# Altium footprint library SMD Connectors.PcbLib: 24 footprints (part 2 of 2)
Each footprint in its own frame and in the unit in brackets; x right, y up, seen from the top. Pads: shape width x height; smd on the part's side, far side on the other; paste and mask are expansions set on the pad; w line width, h text height; cw(c..) or ccw(c..) is an arc to the next point about the centre after c.
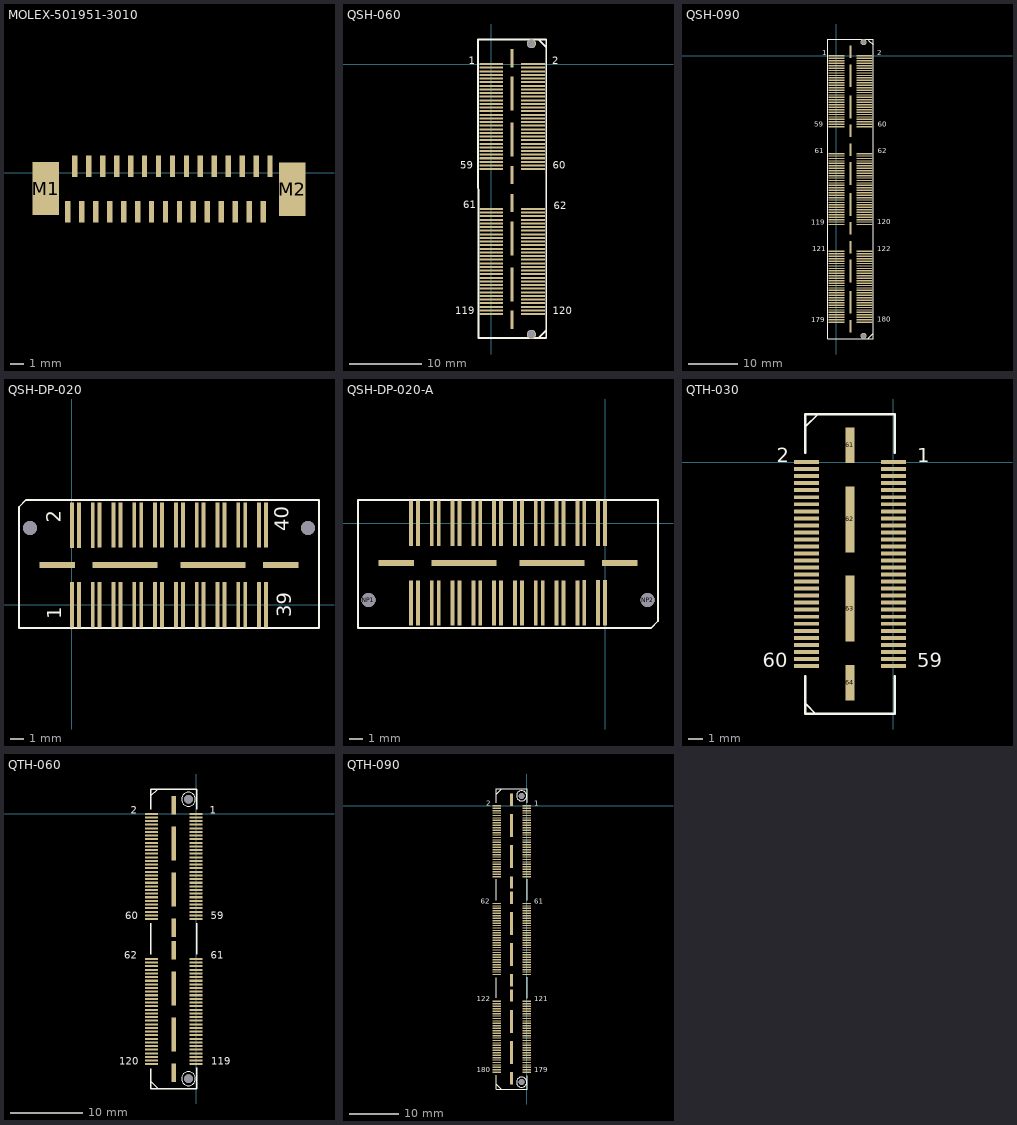
[diagram p1: the footprints below, top view; thin cyan lines are the x and y axes]

## MOLEX-501951-3010 [mil] "MOLEX FPC CONNECTOR 30 POSITIONS"
pads (32):
  rect 15x60 smd: 1(374.02,-109.8) 2(393.7,19.37) 3(413.39,-109.8) 4(433.07,19.37) 5(452.76,-109.8) 6(472.44,19.37) 7(492.13,-109.8) 8(511.81,19.37) 9(531.5,-109.8) 10(551.18,19.37) 11(570.87,-109.8) 12(590.55,19.37) 13(610.24,-109.8) 14(629.92,19.37) 15(649.61,-109.8) 16(669.29,19.37) 17(688.98,-109.8) 18(708.66,19.37) 19(728.35,-109.8) 20(748.03,19.37) 21(767.72,-109.8) 22(787.4,19.37) 23(807.09,-109.8) 24(826.77,19.37) 25(846.46,-109.8) 26(866.14,19.37) 27(885.83,-109.8) 28(905.51,19.37) 29(925.2,-109.8) 30(944.88,19.37)
  rect 75x150 smd: M1(311,-44) M2(1008,-46)
3D body: height 157.4, standoff -2.05, extent 309,-117.58 1009.79,59.58

## QSH-060 [mm]
pads (130):
  rect 3.273x0.279 smd: 1(0,0) 2(5.768,0) 3(0,-0.5) 4(5.768,-0.5) 5(0,-1) 6(5.768,-1) 7(0,-1.5) 8(5.768,-1.5) 9(0,-2) 10(5.768,-2) 11(0,-2.5) 12(5.768,-2.5) 13(0,-3) 14(5.768,-3) 15(0,-3.5) 16(5.768,-3.5) 17(0,-4) 18(5.768,-4) 19(0,-4.5) 20(5.768,-4.5) 21(0,-5) 22(5.768,-5) 23(0,-5.5) 24(5.768,-5.5) 25(0,-6) 26(5.768,-6) 27(0,-6.5) 28(5.768,-6.5) 29(0,-7) 30(5.768,-7) 31(0,-7.5) 32(5.768,-7.5) 33(0,-8) 34(5.768,-8) 35(0,-8.5) 36(5.768,-8.5) 37(0,-9) 38(5.768,-9) 39(0,-9.5) 40(5.768,-9.5) 41(0,-10) 42(5.768,-10) 43(0,-10.5) 44(5.768,-10.5) 45(0,-11) 46(5.768,-11) 47(0,-11.5) 48(5.768,-11.5) 49(0,-12) 50(5.768,-12) 51(0,-12.5) 52(5.768,-12.5) 53(0,-13) 54(5.768,-13) 55(0,-13.5) 56(5.768,-13.5) 57(0,-14) 58(5.768,-14) 59(0,-14.5) 60(5.768,-14.5) 61(0,-20.003) 62(5.768,-20.003) 63(0,-20.503) 64(5.768,-20.503) 65(0,-21.003) 66(5.768,-21.003) 67(0,-21.503) 68(5.768,-21.503) 69(0,-22.003) 70(5.768,-22.003) 71(0,-22.503) 72(5.768,-22.503) 73(0,-23.003) 74(5.768,-23.003) 75(0,-23.503) 76(5.768,-23.503) 77(0,-24.003) 78(5.768,-24.003) 79(0,-24.503) 80(5.768,-24.503) 81(0,-25.003) 82(5.768,-25.003) 83(0,-25.503) 84(5.768,-25.503) 85(0,-26.003) 86(5.768,-26.003) 87(0,-26.503) 88(5.768,-26.503) 89(0,-27.003) 90(5.768,-27.003) 91(0,-27.503) 92(5.768,-27.503) 93(0,-28.003) 94(5.768,-28.003) 95(0,-28.503) 96(5.768,-28.503) 97(0,-29.003) 98(5.768,-29.003) 99(0,-29.503) 100(5.768,-29.503) 101(0,-30.003) 102(5.768,-30.003) 103(0,-30.503) 104(5.768,-30.503) 105(0,-31.003) 106(5.768,-31.003) 107(0,-31.503) 108(5.768,-31.503) 109(0,-32.003) 110(5.768,-32.003) 111(0,-32.503) 112(5.768,-32.503) 113(0,-33.003) 114(5.768,-33.003) 115(0,-33.503) 116(5.768,-33.503) 117(0,-34.003) 118(5.768,-34.003) 119(0,-34.503) 120(5.768,-34.503)
  rect 0.432x2.54 smd: 121(2.874,-35.309) 124(2.874,-19.18) 125(2.874,-15.307) 128(2.874,0.822)
  rect 0.432x4.699 smd: 122(2.874,-30.42) 123(2.874,-24.069) 126(2.874,-10.418) 127(2.874,-4.067)
  round 1.27 hole 1.016: 301(5.541,-37.312) 301(5.541,2.824)
Top Overlay:
  lines w0.254: 6.55,-37.766 7.5,-36.816 ; 6.55,3.334 7.5,2.384 ; -1.82,3.403 7.58,3.403 7.579,-37.81 -1.786,-37.819 -1.82,3.403
  text "62" at 8.6,-20.016 h1.02
  text "60" at 8.5,-14.416 h1.02
  text "59" at -4.3,-14.416 h1.02
  text "2" at 8.4,-0.016 h1.02
  text "1" at -3.1,-0.016 h1.02
  text "120" at 8.5,-34.516 h1.02
  text "119" at -5,-34.516 h1.02
  text "61" at -3.9,-19.916 h1.02

## QSH-090 [mm]
pads (194):
  rect 3.273x0.279 smd: 1(0,0) 2(5.768,0) 3(0,-0.5) 4(5.768,-0.5) 5(0,-1) 6(5.768,-1) 7(0,-1.5) 8(5.768,-1.5) 9(0,-2) 10(5.768,-2) 11(0,-2.5) 12(5.768,-2.5) 13(0,-3) 14(5.768,-3) 15(0,-3.5) 16(5.768,-3.5) 17(0,-4) 18(5.768,-4) 19(0,-4.5) 20(5.768,-4.5) 21(0,-5) 22(5.768,-5) 23(0,-5.5) 24(5.768,-5.5) 25(0,-6) 26(5.768,-6) 27(0,-6.5) 28(5.768,-6.5) 29(0,-7) 30(5.768,-7) 31(0,-7.5) 32(5.768,-7.5) 33(0,-8) 34(5.768,-8) 35(0,-8.5) 36(5.768,-8.5) 37(0,-9) 38(5.768,-9) 39(0,-9.5) 40(5.768,-9.5) 41(0,-10) 42(5.768,-10) 43(0,-10.5) 44(5.768,-10.5) 45(0,-11) 46(5.768,-11) 47(0,-11.5) 48(5.768,-11.5) 49(0,-12) 50(5.768,-12) 51(0,-12.5) 52(5.768,-12.5) 53(0,-13) 54(5.768,-13) 55(0,-13.5) 56(5.768,-13.5) 57(0,-14) 58(5.768,-14) 59(0,-14.5) 60(5.768,-14.5) 61(0,-20.003) 62(5.768,-20.003) 63(0,-20.503) 64(5.768,-20.503) 65(0,-21.003) 66(5.768,-21.003) 67(0,-21.503) 68(5.768,-21.503) 69(0,-22.003) 70(5.768,-22.003) 71(0,-22.503) 72(5.768,-22.503) 73(0,-23.003) 74(5.768,-23.003) 75(0,-23.503) 76(5.768,-23.503) 77(0,-24.003) 78(5.768,-24.003) 79(0,-24.503) 80(5.768,-24.503) 81(0,-25.003) 82(5.768,-25.003) 83(0,-25.503) 84(5.768,-25.503) 85(0,-26.003) 86(5.768,-26.003) 87(0,-26.503) 88(5.768,-26.503) 89(0,-27.003) 90(5.768,-27.003) 91(0,-27.503) 92(5.768,-27.503) 93(0,-28.003) 94(5.768,-28.003) 95(0,-28.503) 96(5.768,-28.503) 97(0,-29.003) 98(5.768,-29.003) 99(0,-29.503) 100(5.768,-29.503) 101(0,-30.003) 102(5.768,-30.003) 103(0,-30.503) 104(5.768,-30.503) 105(0,-31.003) 106(5.768,-31.003) 107(0,-31.503) 108(5.768,-31.503) 109(0,-32.003) 110(5.768,-32.003) 111(0,-32.503) 112(5.768,-32.503) 113(0,-33.003) 114(5.768,-33.003) 115(0,-33.503) 116(5.768,-33.503) 117(0,-34.003) 118(5.768,-34.003) 119(0,-34.503) 120(5.768,-34.503) 121(0,-40.006) 122(5.768,-40.006) 123(0,-40.506) 124(5.768,-40.506) 125(0,-41.006) 126(5.768,-41.006) 127(0,-41.506) 128(5.768,-41.506) 129(0,-42.006) 130(5.768,-42.006) 131(0,-42.506) 132(5.768,-42.506) 133(0,-43.006) 134(5.768,-43.006) 135(0,-43.506) 136(5.768,-43.506) 137(0,-44.006) 138(5.768,-44.006) 139(0,-44.506) 140(5.768,-44.506) 141(0,-45.006) 142(5.768,-45.006) 143(0,-45.506) 144(5.768,-45.506) 145(0,-46.006) 146(5.768,-46.006) 147(0,-46.506) 148(5.768,-46.506) 149(0,-47.006) 150(5.768,-47.006) 151(0,-47.506) 152(5.768,-47.506) 153(0,-48.006) 154(5.768,-48.006) 155(0,-48.506) 156(5.768,-48.506) 157(0,-49.006) 158(5.768,-49.006) 159(0,-49.506) 160(5.768,-49.506) 161(0,-50.006) 162(5.768,-50.006) 163(0,-50.506) 164(5.768,-50.506) 165(0,-51.006) 166(5.768,-51.006) 167(0,-51.506) 168(5.768,-51.506) 169(0,-52.006) 170(5.768,-52.006) 171(0,-52.506) 172(5.768,-52.506) 173(0,-53.006) 174(5.768,-53.006) 175(0,-53.506) 176(5.768,-53.506) 177(0,-54.006) 178(5.768,-54.006) 179(0,-54.506) 180(5.768,-54.506)
  rect 0.432x2.54 smd: 181(2.874,-55.312) 184(2.874,-39.183) 185(2.874,-35.309) 188(2.874,-19.18) 189(2.874,-15.307) 192(2.874,0.822)
  rect 0.432x4.699 smd: 182(2.874,-50.423) 183(2.874,-44.072) 186(2.874,-30.42) 187(2.874,-24.069) 190(2.874,-10.418) 191(2.874,-4.067)
  round 1.27 hole 1.016: 301(5.541,-57.314) 301(5.541,2.825)
Top Overlay:
  lines w0.254: 6.55,-57.75 7.5,-56.8 ; 6.55,3.25 7.5,2.3 ; -1.82,-57.872 7.555,-57.872 7.58,3.403 -1.82,3.403 -1.82,-57.872
  text "179" at -5.2,-54.5 h1.02
  text "119" at -5.2,-34.6 h1.02
  text "121" at -5,-40 h1.02
  text "61" at -4.4,-19.9 h1.02
  text "59" at -4.5,-14.5 h1.02
  text "180" at 8.3,-54.4 h1.02
  text "122" at 8.3,-40 h1.02
  text "120" at 8.3,-34.5 h1.02
  text "62" at 8.5,-19.9 h1.02
  text "60" at 8.5,-14.5 h1.02
  text "2" at 8.4,0.1 h1.02
  text "1" at -2.9,0.1 h1.02

## QSH-DP-020 [mm]
pads (46):
  rect 0.279x3.273 smd: 1(0,0) 2(0,5.754) 3(0.5,0) 4(0.5,5.754) 5(1.5,0) 6(1.5,5.754) 7(2,0) 8(2,5.768) 9(3,0) 10(3,5.768) 11(3.5,0) 12(3.5,5.768) 13(4.5,0) 14(4.5,5.768) 15(5,0) 16(5,5.768) 17(6,0) 18(6,5.768) 19(6.5,0) 20(6.5,5.768) 21(7.5,0) 22(7.5,5.768) 23(8,0) 24(8,5.768) 25(9,0) 26(9,5.768) 27(9.5,0) 28(9.5,5.768) 29(10.5,0) 30(10.5,5.768) 31(11,0) 32(11,5.768) 33(12,0) 34(12,5.768) 35(12.5,0) 36(12.5,5.768) 37(13.5,0) 38(13.5,5.768) 39(14,0) 40(14,5.768)
  rect 2.54x0.432 smd: 41(-1.065,2.884) 44(15.065,2.884)
  rect 4.7x0.432 smd: 42(3.825,2.884) 43(10.175,2.884)
  round 1.016 hole 1.016: ""(-3.03,5.554) ""(17.03,5.554)
Top Overlay:
  lines w0.127: -3.818,-1.671 -3.818,4.933 -3.818,7.065 -3.31,7.573 17.822,7.573 17.822,-1.671 -3.818,-1.671
  text "1" at -0.755,-1.021 h1.02
  text "2" at -0.805,5.915 h1.02
  text "40" at 15.635,5.307 h1.02
  text "39" at 15.827,-0.897 h1.02
Bottom Overlay:

## QSH-DP-020-A [mm]
pads (46):
  rect 0.279x3.273 smd: 1(0,0) 2(0,-5.754) 3(-0.5,0) 4(-0.5,-5.754) 5(-1.5,0) 6(-1.5,-5.754) 7(-2,0) 8(-2,-5.768) 9(-3,0) 10(-3,-5.768) 11(-3.5,0) 12(-3.5,-5.768) 13(-4.5,0) 14(-4.5,-5.768) 15(-5,0) 16(-5,-5.768) 17(-6,0) 18(-6,-5.768) 19(-6.5,0) 20(-6.5,-5.768) 21(-7.5,0) 22(-7.5,-5.768) 23(-8,0) 24(-8,-5.768) 25(-9,0) 26(-9,-5.768) 27(-9.5,0) 28(-9.5,-5.768) 29(-10.5,0) 30(-10.5,-5.768) 31(-11,0) 32(-11,-5.768) 33(-12,0) 34(-12,-5.768) 35(-12.5,0) 36(-12.5,-5.768) 37(-13.5,0) 38(-13.5,-5.768) 39(-14,0) 40(-14,-5.768)
  rect 2.54x0.432 smd: 41(1.065,-2.884) 44(-15.065,-2.884)
  rect 4.7x0.432 smd: 42(-3.825,-2.884) 43(-10.175,-2.884)
  round 1.016 hole 1.016: NP1(-17.067,-5.554) NP2(3.066,-5.554)
Top Overlay:
  lines w0.127: -17.822,-7.573 -17.822,1.671 3.818,1.671 3.818,-4.933 3.818,-7.065 3.31,-7.573 -17.822,-7.573

## QTH-030 [mil]
pads (64):
  rect 70x11 smd: 1(0,0) 2(-243,0) 3(0,-19.7) 4(-243,-19.7) 5(0,-39.4) 6(-243,-39.4) 7(0,-59) 8(-243,-59) 9(0,-78.7) 10(-243,-78.7) 11(0,-98.4) 12(-243,-98.4) 13(0,-118.1) 14(-243,-118.1) 15(0,-137.8) 16(-243,-137.8) 17(0,-157.5) 18(-243,-157.5) 19(0,-177.1) 20(-243,-177.1) 21(0,-196.8) 22(-243,-196.8) 23(0,-216.4) 24(-243,-216.4) 25(0,-236.2) 26(-243,-236.2) 27(0,-255.9) 28(-243,-255.9) 29(0,-275.6) 30(-243,-275.6) 31(0,-295.2) 32(-243,-295.2) 33(0,-314.9) 34(-243,-314.9) 35(0,-334.6) 36(-243,-334.6) 37(0,-354.4) 38(-243,-354.4) 39(0,-374) 40(-243,-374) 41(0,-393.7) 42(-243,-393.7) 43(0,-413.3) 44(-243,-413.3) 45(0,-433) 46(-243,-433) 47(0,-452.7) 48(-243,-452.7) 49(0,-472.4) 50(-243,-472.4) 51(0,-492.1) 52(-243,-492.1) 53(0,-511.8) 54(-243,-511.8) 55(0,-531.4) 56(-243,-531.4) 57(0,-551.1) 58(-243,-551.1) 59(0,-570.8) 60(-243,-570.8)
  rect 25x100 smd: 61(-121.5,47.1) 64(-121.5,-617.9)
  rect 25x185 smd: 62(-121.5,-160.4) 63(-121.5,-410.4)
Top Overlay:
  lines w5: -246.5,-677.17 -244.77,-677.17 -216.54,-705.4 ; -246.5,98.43 -210.33,134.6 -208.66,134.6
  lines w7: -246.5,-600.4 -246.5,-705.4 3.5,-705.4 3.5,-600.4 ; -246.5,25.5 -246.5,134.6 3.5,134.6 3.5,25.5
  text "1" at 66.93,0 h40
  text "2" at -326.77,0 h40
  text "60" at -366.14,-574.8 h40
  text "59" at 66.93,-574.8 h40
3D body: height 167.88, standoff -29.13, extent -260,-678.75 20,108.75

## QTH-060 [mil]
pads (130):
  rect 70x11 smd: 1(0,0) 2(-243,0) 3(0,-19.7) 4(-243,-19.7) 5(0,-39.4) 6(-243,-39.4) 7(0,-59) 8(-243,-59) 9(0,-78.7) 10(-243,-78.7) 11(0,-98.4) 12(-243,-98.4) 13(0,-118.1) 14(-243,-118.1) 15(0,-137.8) 16(-243,-137.8) 17(0,-157.5) 18(-243,-157.5) 19(0,-177.1) 20(-243,-177.1) 21(0,-196.8) 22(-243,-196.8) 23(0,-216.4) 24(-243,-216.4) 25(0,-236.2) 26(-243,-236.2) 27(0,-255.9) 28(-243,-255.9) 29(0,-275.6) 30(-243,-275.6) 31(0,-295.2) 32(-243,-295.2) 33(0,-314.9) 34(-243,-314.9) 35(0,-334.6) 36(-243,-334.6) 37(0,-354.4) 38(-243,-354.4) 39(0,-374) 40(-243,-374) 41(0,-393.7) 42(-243,-393.7) 43(0,-413.3) 44(-243,-413.3) 45(0,-433) 46(-243,-433) 47(0,-452.7) 48(-243,-452.7) 49(0,-472.4) 50(-243,-472.4) 51(0,-492.1) 52(-243,-492.1) 53(0,-511.8) 54(-243,-511.8) 55(0,-531.4) 56(-243,-531.4) 57(0,-551.1) 58(-243,-551.1) 59(0,-570.8) 60(-243,-570.8) 61(0,-787.5) 62(-243,-787.5) 63(0,-807.2) 64(-243,-807.2) 65(0,-826.8) 66(-243,-826.8) 67(0,-846.5) 68(-243,-846.5) 69(0,-866.2) 70(-243,-866.2) 71(0,-885.9) 72(-243,-885.9) 73(0,-905.6) 74(-243,-905.6) 75(0,-925.3) 76(-243,-925.3) 77(0,-945) 78(-243,-945) 79(0,-964.6) 80(-243,-964.6) 81(0,-984.3) 82(-243,-984.3) 83(0,-1004) 84(-243,-1004) 85(0,-1023.7) 86(-243,-1023.7) 87(0,-1043.4) 88(-243,-1043.4) 89(0,-1063.1) 90(-243,-1063.1) 91(0,-1082.7) 92(-243,-1082.7) 93(0,-1102.4) 94(-243,-1102.4) 95(0,-1122.1) 96(-243,-1122.1) 97(0,-1141.8) 98(-243,-1141.8) 99(0,-1161.5) 100(-243,-1161.5) 101(0,-1181.2) 102(-243,-1181.2) 103(0,-1200.8) 104(-243,-1200.8) 105(0,-1220.5) 106(-243,-1220.5) 107(0,-1240.2) 108(-243,-1240.2) 109(0,-1259.9) 110(-243,-1259.9) 111(0,-1279.6) 112(-243,-1279.6) 113(0,-1299.3) 114(-243,-1299.3) 115(0,-1319) 116(-243,-1319) 117(0,-1338.6) 118(-243,-1338.6) 119(0,-1358.3) 120(-243,-1358.3)
  round 47 hole 47: 121(-41.5,78.6) 130(-41.5,-1436.6)
  rect 25x100 smd: 122(-121.5,47.1) 125(-121.5,-617.9) 126(-121.5,-740.4) 129(-121.5,-1405.4)
  rect 25x185 smd: 123(-121.5,-160.4) 124(-121.5,-410.4) 127(-121.5,-947.9) 128(-121.5,-1197.9)
Top Overlay:
  lines w1: -41.5,-1475.11 ccw(c-41.5,-1437.1) -41.5,-1399.09 ccw(c-41.5,-1437.1) -41.5,-1475.11 ; -41.5,40.89 ccw(c-41.5,78.9) -41.5,116.91 ccw(c-41.5,78.9) -41.5,40.89
  lines w5: -245.18,97.34 -209,133.52 ; -243.75,-1453.1 -207.58,-1489.27
  lines w7: -246.5,-1382.9 -246.5,-1492.9 3.5,-1492.9 3.5,-1378.9 ; -246.5,-762.9 -246.5,-592.9 ; -246.5,25.5 -246.5,134.6 3.5,134.6 3.5,25.5 ; 3.5,-762.9 3.5,-592.9
  text "1" at 74.8,0 h40
  text "2" at -354.33,0 h40
  text "119" at 82.68,-1362.2 h40
  text "120" at -417.32,-1362.2 h40
  text "59" at 78.74,-570.87 h40
  text "61" at 78.74,-787.4 h40
  text "60" at -385.83,-570.87 h40
  text "62" at -389.76,-787.4 h40

## QTH-090 [mil]
pads (194):
  rect 70x11 smd: 1(0,0) 2(-243,0) 3(0,-19.7) 4(-243,-19.7) 5(0,-39.4) 6(-243,-39.4) 7(0,-59) 8(-243,-59) 9(0,-78.7) 10(-243,-78.7) 11(0,-98.4) 12(-243,-98.4) 13(0,-118.1) 14(-243,-118.1) 15(0,-137.8) 16(-243,-137.8) 17(0,-157.5) 18(-243,-157.5) 19(0,-177.1) 20(-243,-177.1) 21(0,-196.8) 22(-243,-196.8) 23(0,-216.4) 24(-243,-216.4) 25(0,-236.2) 26(-243,-236.2) 27(0,-255.9) 28(-243,-255.9) 29(0,-275.6) 30(-243,-275.6) 31(0,-295.2) 32(-243,-295.2) 33(0,-314.9) 34(-243,-314.9) 35(0,-334.6) 36(-243,-334.6) 37(0,-354.4) 38(-243,-354.4) 39(0,-374) 40(-243,-374) 41(0,-393.7) 42(-243,-393.7) 43(0,-413.3) 44(-243,-413.3) 45(0,-433) 46(-243,-433) 47(0,-452.7) 48(-243,-452.7) 49(0,-472.4) 50(-243,-472.4) 51(0,-492.1) 52(-243,-492.1) 53(0,-511.8) 54(-243,-511.8) 55(0,-531.4) 56(-243,-531.4) 57(0,-551.1) 58(-243,-551.1) 59(0,-570.8) 60(-243,-570.8) 61(0,-787.5) 62(-243,-787.5) 63(0,-807.2) 64(-243,-807.2) 65(0,-826.8) 66(-243,-826.8) 67(0,-846.5) 68(-243,-846.5) 69(0,-866.2) 70(-243,-866.2) 71(0,-885.9) 72(-243,-885.9) 73(0,-905.6) 74(-243,-905.6) 75(0,-925.3) 76(-243,-925.3) 77(0,-945) 78(-243,-945) 79(0,-964.6) 80(-243,-964.6) 81(0,-984.3) 82(-243,-984.3) 83(0,-1004) 84(-243,-1004) 85(0,-1023.7) 86(-243,-1023.7) 87(0,-1043.4) 88(-243,-1043.4) 89(0,-1063.1) 90(-243,-1063.1) 91(0,-1082.7) 92(-243,-1082.7) 93(0,-1102.4) 94(-243,-1102.4) 95(0,-1122.1) 96(-243,-1122.1) 97(0,-1141.8) 98(-243,-1141.8) 99(0,-1161.5) 100(-243,-1161.5) 101(0,-1181.2) 102(-243,-1181.2) 103(0,-1200.8) 104(-243,-1200.8) 105(0,-1220.5) 106(-243,-1220.5) 107(0,-1240.2) 108(-243,-1240.2) 109(0,-1259.9) 110(-243,-1259.9) 111(0,-1279.6) 112(-243,-1279.6) 113(0,-1299.3) 114(-243,-1299.3) 115(0,-1319) 116(-243,-1319) 117(0,-1338.6) 118(-243,-1338.6) 119(0,-1358.3) 120(-243,-1358.3) 121(0,-1575) 122(-243,-1575) 123(0,-1594.7) 124(-243,-1594.7) 125(0,-1614.3) 126(-243,-1614.3) 127(0,-1634) 128(-243,-1634) 129(0,-1653.7) 130(-243,-1653.7) 131(0,-1673.4) 132(-243,-1673.4) 133(0,-1693.1) 134(-243,-1693.1) 135(0,-1712.8) 136(-243,-1712.8) 137(0,-1732.5) 138(-243,-1732.5) 139(0,-1752.1) 140(-243,-1752.1) 141(0,-1771.8) 142(-243,-1771.8) 143(0,-1791.5) 144(-243,-1791.5) 145(0,-1811.2) 146(-243,-1811.2) 147(0,-1830.9) 148(-243,-1830.9) 149(0,-1850.6) 150(-243,-1850.6) 151(0,-1870.2) 152(-243,-1870.2) 153(0,-1889.9) 154(-243,-1889.9) 155(0,-1909.6) 156(-243,-1909.6) 157(0,-1929.3) 158(-243,-1929.3) 159(0,-1949) 160(-243,-1949) 161(0,-1968.7) 162(-243,-1968.7) 163(0,-1988.3) 164(-243,-1988.3) 165(0,-2008) 166(-243,-2008) 167(0,-2027.7) 168(-243,-2027.7) 169(0,-2047.4) 170(-243,-2047.4) 171(0,-2067.1) 172(-243,-2067.1) 173(0,-2086.8) 174(-243,-2086.8) 175(0,-2106.5) 176(-243,-2106.5) 177(0,-2126.1) 178(-243,-2126.1) 179(0,-2145.8) 180(-243,-2145.8)
  round 47 hole 47: 181(-41.5,78.6) 194(-41.5,-2224.1)
  rect 25x100 smd: 182(-121.5,47.1) 185(-121.5,-617.9) 186(-121.5,-740.4) 189(-121.5,-1405.4) 190(-121.5,-1527.9) 193(-121.5,-2192.9)
  rect 25x185 smd: 183(-121.5,-160.4) 184(-121.5,-410.4) 187(-121.5,-947.9) 188(-121.5,-1197.9) 191(-121.5,-1735.4) 192(-121.5,-1985.4)
Top Overlay:
  lines w1: -41.5,-2265.9 cw(c-41.5,-2224.9) -41.5,-2183.9 cw(c-41.5,-2224.9) -41.5,-2265.9 ; -41.5,38.1 cw(c-41.5,79.1) -41.5,120.1 cw(c-41.5,79.1) -41.5,38.1
  lines w5: -245.18,-2243.01 -209,-2279.18 ; -243.75,94.83 -207.58,131.01
  lines w7: -246.5,-2170.4 -246.5,-2280.4 3.5,-2280.4 3.5,-2175.4 ; -246.5,-1545.4 -246.5,-1385.4 ; -246.5,-762.9 -246.5,-592.9 ; -246.5,25.5 -246.5,134.6 3.5,134.6 3.5,25.5 ; 3.5,-1550.4 3.5,-1380.4 ; 3.5,-762.9 3.5,-592.9
  text "1" at 59.06,0 h40
  text "2" at -326.77,0 h40
  text "61" at 59.06,-787.4 h40
  text "62" at -370.08,-787.4 h40
  text "121" at 59.06,-1574.8 h40
  text "122" at -401.57,-1574.8 h40
  text "180" at -401.57,-2145.67 h40
  text "179" at 59.06,-2145.67 h40